# EAGLE library part JST-PH6 (library controller)
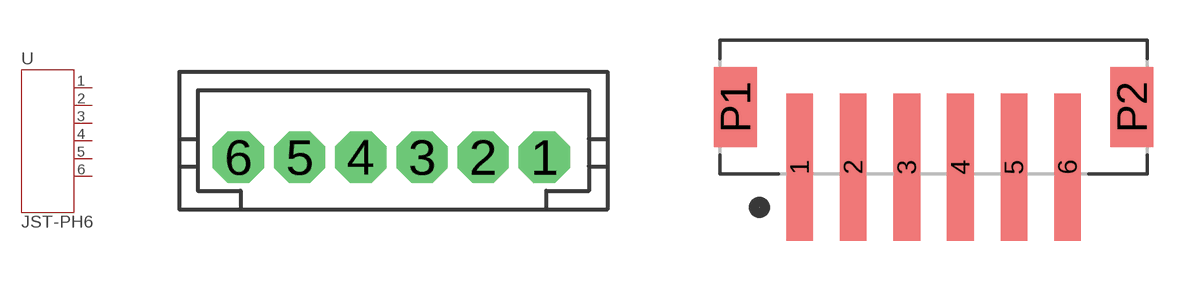
[diagram p1: symbol with the pads of JST-PH6; footprints JST-PH6, JST_B6B-PH-SM4-TB(LF)(SN)]

Designator prefix -

## JST-PH6JST-PH6  [JST-PH6]
1  1  pas
2  2  pas
3  3  pas
4  4  pas
5  5  pas
6  6  pas

## JST-PH6  [JST_B6B-PH-SM4-TB(LF)(SN)]
Pads as for JST-PH6

## JST-PH6RA_SMT  [JST_S6B-PH-SM4-TB(LF)(SN)]
Pads as for JST-PH6

## Footprint JST-PH6 (pad centres in mm)
drill 0.813 pad 1.676 octagon: 1 5,0; 2 3,0; 3 1,0; 4 -1,0; 5 -3,0; 6 -5,0

## Footprint JST_B6B-PH-SM4-TB(LF)(SN) (pad centres in mm)
smd 1 x 5.5: 1 -5,0; 2 -3,0; 3 -1,0; 4 1,0; 5 3,0; 6 5,0
smd 1.6 x 3: P1 -7.4,2.25; P2 7.4,2.25

## Footprint JST_S6B-PH-SM4-TB(LF)(SN) (pad centres in mm)
smd 1 x 3.5: 1 5,-2.98; 2 3,-2.98; 3 1,-2.98; 4 -1,-2.98; 5 -3,-2.98; 6 -5,-2.98
smd 1.5 x 3.4: S1 -7.35,2.57; S2 7.35,2.57